# Altium schematic symbol library A_Semi.SchLib: 136 symbols (part 2 of 2)
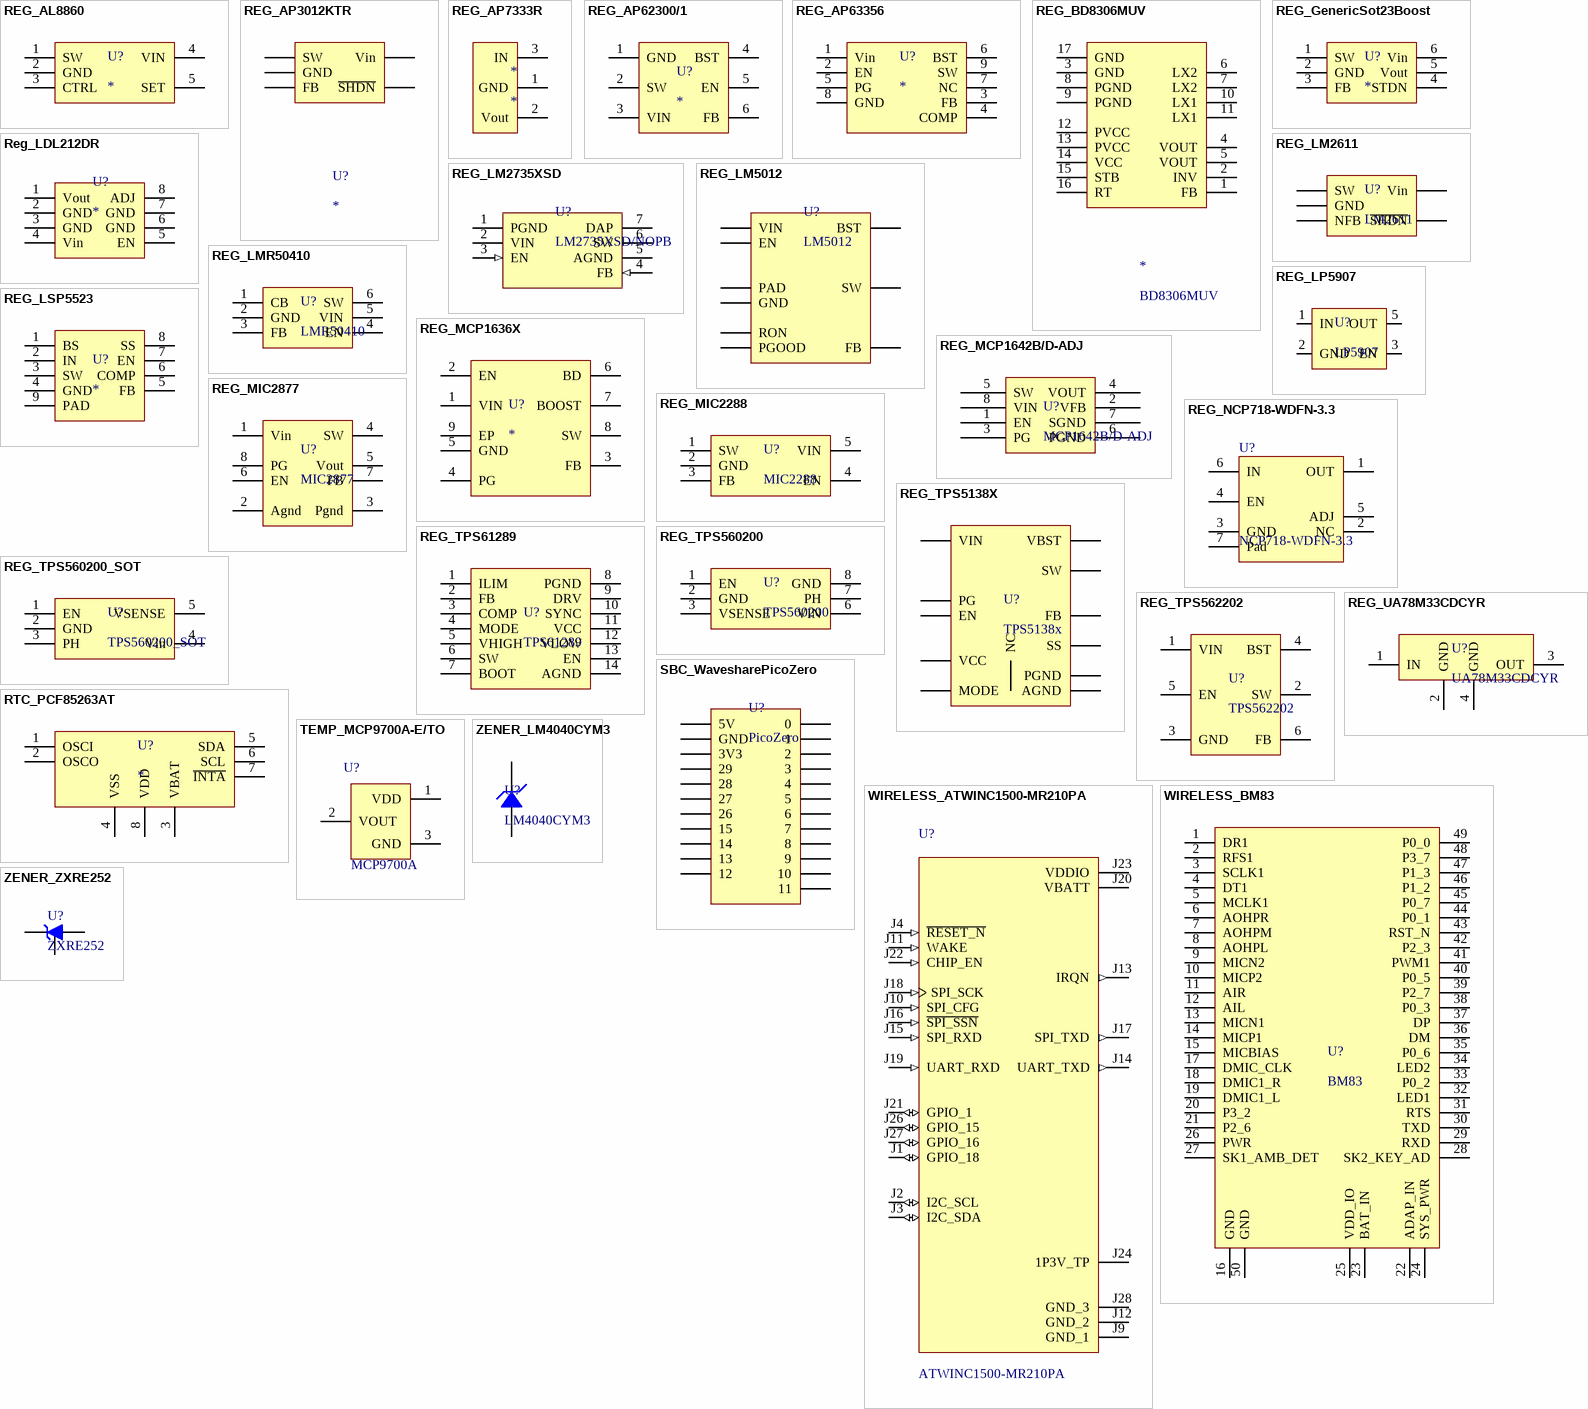
[diagram p7: symbols REG_AL8860 to ZENER_ZXRE252]

## REG_MCP1636X
designator U?
footprint MCP1636X
pins: 1 VIN, 2 EN, 3 FB, 4 PG, 5 GND, 6 BD, 7 BOOST, 8 SW, 9 EP

## REG_MCP1642B/D-ADJ
designator U?, comment MCP1642B/D-ADJ
footprint MSOP8
pins: 1 EN, 2 VFB, 3 PG, 4 VOUT, 5 SW, 6 PGND, 7 SGND, 8 VIN

## REG_MIC2288
designator U?, comment MIC2288
footprint SOT23-5 (SOT23, 5-Leads, Body 2.90x2.80mm, Pitch 0.95mm, IPC Medium Density)
pins: 1 SW, 2 GND, 3 FB, 4 EN, 5 VIN

## REG_MIC2877
designator U?, comment MIC2877
footprint FTQFN-8LD
pins: 1 Vin, 2 Agnd, 3 Pgnd, 4 SW, 5 Vout, 6 EN, 7 FB, 8 PG

## REG_NCP718-WDFN-3.3
designator U?, comment NCP718-WDFN-3.3
3.3V, Low IQ, LDO, 24V, 300 mA, WDFN-6; Value: NCP718AMT330TBG; Supplier 1: Mouser; Supplier Part Number 1: 863-NCP718AMT330TBG
footprint SON65P200X100_HS-7N (SON, 6-Leads, Body 2.00x2.00mm, Pitch 0.65mm, Thermal Pad 1.60x0.78mm, IPC Medium Density)
pins: 1 OUT (power), 2 NC (power), 3 GND (power), 4 EN (power), 5 ADJ, 6 IN (power), 7 Pad (power)

## REG_TPS5138X
designator U?, comment TPS5138x
footprint VQFN-HR (TPS51386)
pins: 1 VIN, 2 PGND, 3 PG, 4 FB, 5 SS, 6 NC, 7 SW, 8 VBST, 9 VCC, 10 AGND, 11 EN, 12 MODE

## REG_TPS61289
designator U?, comment TPS61289
footprint TPS61289
pins: 1 ILIM, 2 FB, 3 COMP, 4 MODE, 5 VHIGH, 6 SW, 7 BOOT, 8 PGND, 9 DRV, 10 SYNC, 11 VCC, 12 VLOW, 13 EN, 14 AGND

## REG_TPS560200
designator U?, comment TPS560200
footprint DGK VSSOP8
pins: 1 EN, 2 GND, 3 VSENSE, 6 VIN, 7 PH, 8 GND

## REG_TPS560200_SOT
designator U?, comment TPS560200_SOT
footprint SOT23-5 (SOT23, 5-Leads, Body 2.90x2.80mm, Pitch 0.95mm, IPC Medium Density)
pins: 1 EN, 2 GND, 3 PH, 4 Vin, 5 VSENSE

## REG_TPS562202
designator U?, comment TPS562202
footprint SOT-563 (SOTFL, 6-Leads, Body 1.60x1.60mm, Pitch 0.50mm, IPC Medium Density)
footprint SOT23-6 (SOT23, 6-Leads, Body 2.90x2.80mm, Pitch 0.95mm, IPC Medium Density)
pins: 1 VIN, 2 SW, 3 GND, 4 BST, 5 EN, 6 FB

## REG_UA78M33CDCYR
designator U?, comment UA78M33CDCYR
footprint SOT223-4 (SOT223, 4-Leads, Body 6.5x3.5mm, Pitch 2.3mm, Lead Span 7mm, IPC Medium Density)
pins: 1 IN, 2 GND, 3 OUT, 4 GND

## RTC_PCF85263AT
designator U?
footprint SOIC127P600X175-8N (SOIC, 8-Leads, Body 4.95x3.90mm, Pitch 1.27mm, IPC Medium Density)
pins: 1 OSCI, 2 OSCO, 3 VBAT, 4 VSS, 5 SDA, 6 SCL, 7 ~{INTA}, 8 VDD

## SBC_WavesharePicoZero
designator U?, comment PicoZero
footprint SBC_WavesharePicoZero
footprint SBC_WavesharePicoZeroTH
pins: 0, 1, 2, 3, 4, 5, 6, 7, 8, 9, 10, 11, 12, 13, 14, 15, 26, 27, 28, 29, 30 3V3, 31 GND, 32 5V

## TEMP_MCP9700A-E/TO
designator U?, comment MCP9700A
Linear Thermistor IC, 3-Pin TO-92; Supplier 1: Mouser; Supplier Part Number 1: 579-MCP9700A-E/TO; Value: MCP9700A
footprint TO-92-TO3 (TO, Flat Index; 3 In-Line, Axial Leads; Body Dia. 4.8mm; Leads 0.56 x 0.53 mm (max))
footprint TO-92-TO3-3 Kinked Lead (TO, Flat Index; 3 In-Line, Axial Leads; Body Dia. 4.8mm; Leads 0.56 x 0.53 mm (max))
pins: 1 VDD (power), 2 VOUT (power), 3 GND (power)

## WIRELESS_ATWINC1500-MR210PA
designator U?, comment ATWINC1500-MR210PA
BuyPart: https://www.snapeda.com/parts/ATWINC1500-MR210PA/Atmel/view-part/4796385/?ref=eda; SnapEDA_Link: https://www.snapeda.com/parts/ATWINC1500-MR210PA/Atmel/view-part/4796385/?ref=snap; Value: *
footprint ATMEL_ATWINC1500-MR210PA_ATWINC1500-MR210PA
pins: J1 GPIO_18 (io), J2 I2C_SCL (io), J3 I2C_SDA (io), J4 ~{RESET_N} (in), J9 GND_1, J10 SPI_CFG (in), J11 WAKE (in), J12 GND_2, J13 IRQN (out), J14 UART_TXD (out), J15 SPI_RXD (in), J16 ~{SPI_SSN} (in), J17 SPI_TXD (out), J18 SPI_SCK (in), J19 UART_RXD (in), J20 VBATT (power), J21 GPIO_1 (io), J22 CHIP_EN (in), J23 VDDIO (power), J24 1P3V_TP, J26 GPIO_15 (io), J27 GPIO_16 (io), J28 GND_3

## WIRELESS_BM83
designator U?, comment BM83
footprint bm83
pins: 1 DR1, 2 RFS1, 3 SCLK1, 4 DT1, 5 MCLK1, 6 AOHPR, 7 AOHPM, 8 AOHPL, 9 MICN2, 10 MICP2, 11 AIR, 12 AIL, 13 MICN1, 14 MICP1, 15 MICBIAS, 16 GND, 17 DMIC_CLK, 18 DMIC1_R, 19 DMIC1_L, 20 P3_2, 21 P2_6, 22 ADAP_IN, 23 BAT_IN, 24 SYS_PWR, 25 VDD_IO, 26 PWR, 27 SK1_AMB_DET, 28 SK2_KEY_AD, 29 RXD, 30 TXD, 31 RTS, 32 LED1, 33 P0_2, 34 LED2, 35 P0_6, 36 DM, 37 DP, 38 P0_3, 39 P2_7, 40 P0_5, 41 PWM1, 42 P2_3, 43 RST_N, 44 P0_1, 45 P0_7, 46 P1_2, 47 P1_3, 48 P3_7, 49 P0_0, 50 GND

## ZENER_LM4040CYM3
designator U?, comment LM4040CYM3
footprint SOT95P245X110-3N (SOT23, 3-Leads, Body 2.90x2.45mm, Pitch 0.95mm, IPC Medium Density)
pins: 1 +, 2

## ZENER_ZXRE252
designator U?, comment ZXRE252
Diodes Inc precision shunt
footprint SOT95P245X110-3N (SOT23, 3-Leads, Body 2.90x2.45mm, Pitch 0.95mm, IPC Medium Density)
pins: 1 Ref, 2 K, 3 A